# EAGLE library part VNQ660SP (library _PWM_driver)
High Side Driver, 4 output smart FET
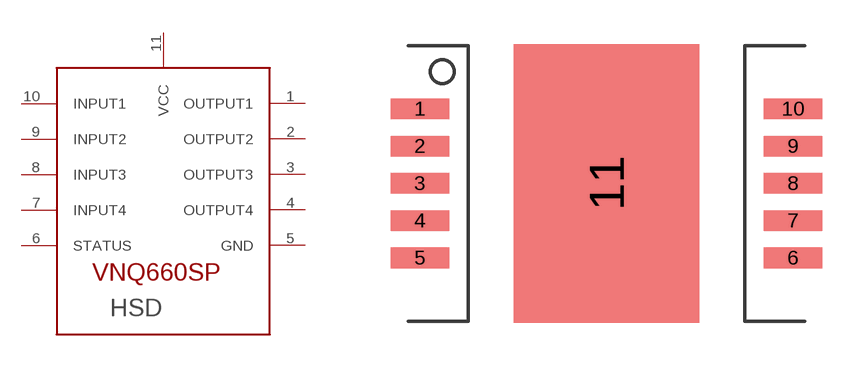
[diagram p5: symbol with the pads of POWERSO-10; footprint POWERSO-10]

Designator prefix HSD

## VNQ660SP  [POWERSO-10]
1  OUTPUT1
2  OUTPUT2
3  OUTPUT3
4  OUTPUT4
5  GND  pwr
6  STATUS
7  INPUT4
8  INPUT3
9  INPUT2
10  INPUT1
11  VCC  pwr

## Footprint POWERSO-10 (pad centres in mm)
smd 2 x 0.7: 1 -6.35,2.54; 2 -6.35,1.27; 3 -6.35,0; 4 -6.35,-1.27; 5 -6.35,-2.54; 6 6.35,-2.54; 7 6.35,-1.27; 8 6.35,0; 9 6.35,1.27; 10 6.35,2.54
smd 6.3 x 9.5: 11 0,0